# Altium schematic symbol library motor_drv.SchLib: 2 symbols
Pins are listed as number, name and electrical type; pins without a type are passive.

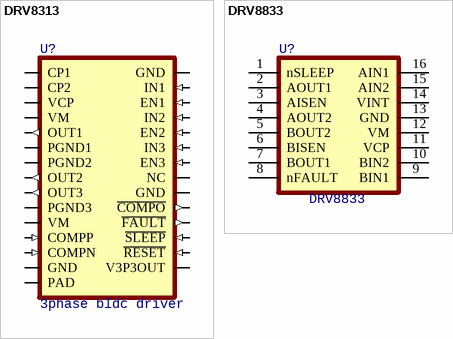
[diagram p0: symbols DRV8313 to DRV8833]

## DRV8313
designator U?, comment 3phase bldc driver
footprint TI HTSSOP-28 PWP (HTSSOP, 28-Leads, Body 9.70x4.40mm, Pitch 0.65mm, Thermal Pad 9.60x3.40mm, IPC Medium Density)
pins: 1 CP1, 2 CP2, 3 VCP, 4 VM, 5 OUT1 (out), 6 PGND1, 7 PGND2, 8 OUT2 (out), 9 OUT3 (out), 10 PGND3, 11 VM, 12 COMPP (in), 13 COMPN (in), 14 GND, 15 V3P3OUT, 16 ~{RESET} (in), 17 ~{SLEEP} (in), 18 ~{FAULT} (out), 19 ~{COMPO} (out), 20 GND, 21 NC, 22 EN3 (in), 23 IN3 (in), 24 EN2 (in), 25 IN2 (in), 26 EN1 (in), 27 IN1 (in), 28 GND, 29 PAD

## DRV8833
designator U?
H-Bridge
footprint _TSSOP_E170_P0.65_16
pins: 1 nSLEEP, 2 AOUT1, 3 AISEN, 4 AOUT2, 5 BOUT2, 6 BISEN, 7 BOUT1, 8 nFAULT, 9 BIN1, 10 BIN2, 11 VCP, 12 VM, 13 GND, 14 VINT, 15 AIN2, 16 AIN1